# Altium schematic symbol library Capacitors.SchLib: 39 symbols
Pins are listed as number, name and electrical type; pins without a type are passive.

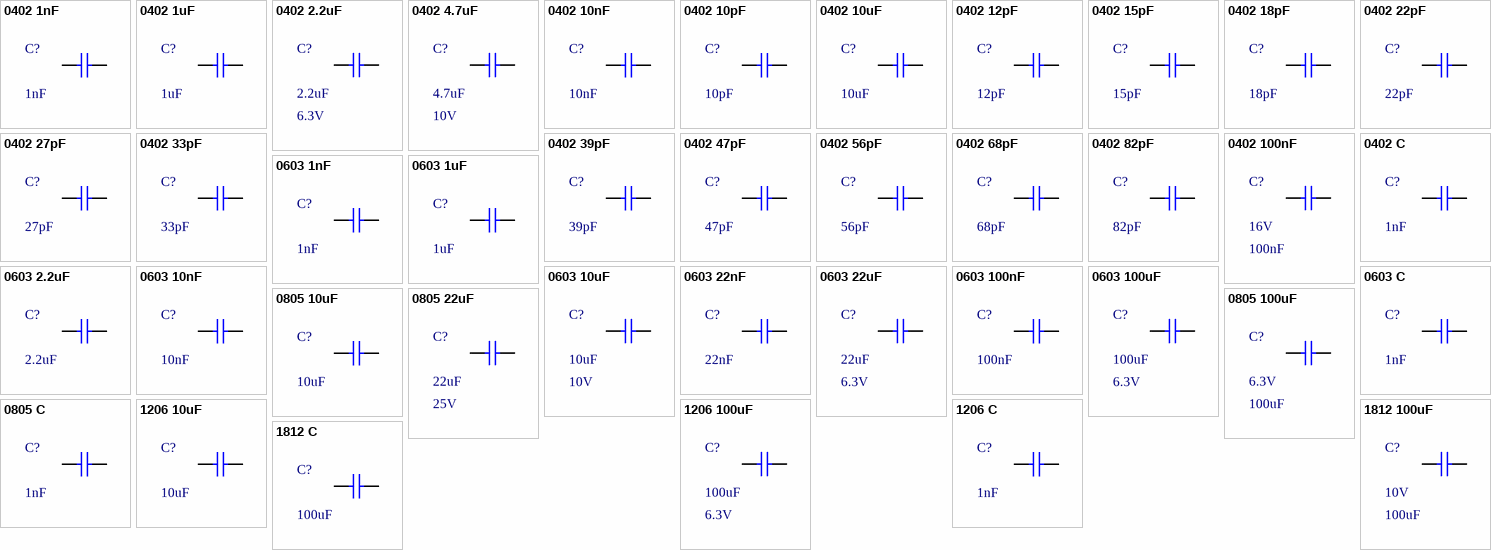
[diagram p0: symbols 0402 1nF to 1812 C]

## 0402 1nF
designator C?  value 1nF  (hidden comment: 0402 1nF)
Chip Capacitor; Voltage: 50V; Capacitor Type: Ceramic; Tolerance: 10%; Package: 0402; Pins: 2; RoHS Compliant: True
footprint 0402_C
pins: 1, 2

## 0402 1uF
designator C?  value 1uF  (hidden comment: 0402 1uF)
Chip Capacitor; Voltage: 25V; Capacitor Type: Ceramic; Tolerance: 10%; Package: 0402; Pins: 2; RoHS Compliant: True
footprint 0402_C
pins: 1, 2

## 0402 2.2uF
designator C?  value 2.2uF  Voltage: 6.3V  (hidden comment: 0402 2.2uF)
Chip Capacitor; Capacitor Type: Ceramic; Tolerance: 10%; Package: 0402; Pins: 2; RoHS Compliant: True
footprint 0402_C
pins: 1, 2

## 0402 4.7uF
designator C?  value 4.7uF  Voltage: 10V  (hidden comment: 0402 4.7uF)
Chip Capacitor; Capacitor Type: Ceramic; Tolerance: 10%; Package: 0402; Pins: 2; RoHS Compliant: True
footprint 0402_C
pins: 1, 2

## 0402 10nF
designator C?  value 10nF  (hidden comment: 0402 10nF)
Chip Capacitor; Voltage: 50V; Capacitor Type: Ceramic; Tolerance: 10%; Package: 0402; Pins: 2; RoHS Compliant: True
footprint 0402_C
pins: 1, 2

## 0402 10pF
designator C?  value 10pF  (hidden comment: 0402 10pF)
Chip Capacitor; Voltage: 50V; Capacitor Type: Ceramic; Tolerance: 10%; Package: 0402; Pins: 2; RoHS Compliant: True
footprint 0402_C
pins: 1, 2

## 0402 10uF
designator C?  value 10uF  (hidden comment: 0402 10uF)
Chip Capacitor; Voltage: 6.3V; Capacitor Type: Ceramic; Tolerance: 10%; Package: 0402; Pins: 2; RoHS Compliant: True
footprint 0402_C
pins: 1, 2

## 0402 12pF
designator C?  value 12pF  (hidden comment: 0402 12pF)
Chip Capacitor; Voltage: 50V; Capacitor Type: Ceramic; Tolerance: 10%; Package: 0402; Pins: 2; RoHS Compliant: True
footprint 0402_C
pins: 1, 2

## 0402 15pF
designator C?  value 15pF  (hidden comment: 0402 15pF)
Chip Capacitor; Voltage: 50V; Capacitor Type: Ceramic; Tolerance: 10%; Package: 0402; Pins: 2; RoHS Compliant: True
footprint 0402_C
pins: 1, 2

## 0402 18pF
designator C?  value 18pF  (hidden comment: 0402 18pF)
Chip Capacitor; Voltage: 50V; Capacitor Type: Ceramic; Tolerance: 10%; Package: 0402; Pins: 2; RoHS Compliant: True
footprint 0402_C
pins: 1, 2

## 0402 22pF
designator C?  value 22pF  (hidden comment: 0402 22pF)
Chip Capacitor; Voltage: 50V; Capacitor Type: Ceramic; Tolerance: 10%; Package: 0402; Pins: 2; RoHS Compliant: True
footprint 0402_C
pins: 1, 2

## 0402 27pF
designator C?  value 27pF  (hidden comment: 0402 27pF)
Chip Capacitor; Voltage: 50V; Capacitor Type: Ceramic; Tolerance: 10%; Package: 0402; Pins: 2; RoHS Compliant: True
footprint 0402_C
pins: 1, 2

## 0402 33pF
designator C?  value 33pF  (hidden comment: 0402 33pF)
Chip Capacitor; Voltage: 50V; Capacitor Type: Ceramic; Tolerance: 10%; Package: 0402; Pins: 2; RoHS Compliant: True
footprint 0402_C
pins: 1, 2

## 0402 39pF
designator C?  value 39pF  (hidden comment: 0402 39pF)
Chip Capacitor; Voltage: 50V; Capacitor Type: Ceramic; Tolerance: 10%; Package: 0402; Pins: 2; RoHS Compliant: True
footprint 0402_C
pins: 1, 2

## 0402 47pF
designator C?  value 47pF  (hidden comment: 0402 47pF)
Chip Capacitor; Voltage: 50V; Capacitor Type: Ceramic; Tolerance: 10%; Package: 0402; Pins: 2; RoHS Compliant: True
footprint 0402_C
pins: 1, 2

## 0402 56pF
designator C?  value 56pF  (hidden comment: 0402 56pF)
Chip Capacitor; Voltage: 50V; Capacitor Type: Ceramic; Tolerance: 10%; Package: 0402; Pins: 2; RoHS Compliant: True
footprint 0402_C
pins: 1, 2

## 0402 68pF
designator C?  value 68pF  (hidden comment: 0402 68pF)
Chip Capacitor; Voltage: 50V; Capacitor Type: Ceramic; Tolerance: 10%; Package: 0402; Pins: 2; RoHS Compliant: True
footprint 0402_C
pins: 1, 2

## 0402 82pF
designator C?  value 82pF  (hidden comment: 0402 82pF)
Chip Capacitor; Voltage: 50V; Capacitor Type: Ceramic; Tolerance: 10%; Package: 0402; Pins: 2; RoHS Compliant: True
footprint 0402_C
pins: 1, 2

## 0402 100nF
designator C?  value 100nF  Voltage: 16V  (hidden comment: 0402 100nF)
Chip Capacitor; Capacitor Type: Ceramic; Tolerance: 10%; Package: 0402; Pins: 2; RoHS Compliant: True
footprint 0402_C
pins: 1, 2

## 0402 C
designator C?, comment value 1nF  (hidden comment: 0402 1nF)
Chip Capacitor; Voltage: 50V; Capacitor Type: Ceramic; Tolerance: 10%; Package: 0402; Pins: 2; RoHS Compliant: True
footprint 0402_C
pins: 1, 2

## 0603 1nF
designator C?  value 1nF  (hidden comment: 0603 1nF)
Chip Capacitor; Voltage: 50V; Capacitor Type: Ceramic; Tolerance: 10%; Package: 0603; Pins: 2; RoHS Compliant: True
footprint 0603_C
pins: 1, 2

## 0603 1uF
designator C?  value 1uF  (hidden comment: 0603 1uF)
Chip Capacitor; Voltage: 50V; Capacitor Type: Ceramic; Tolerance: 10%; Package: 0603; Pins: 2; RoHS Compliant: True
footprint 0603_C
pins: 1, 2

## 0603 2.2uF
designator C?  value 2.2uF  (hidden comment: 0603 2.2uF)
Chip Capacitor; Voltage: 16V; Capacitor Type: Ceramic; Tolerance: 10%; Package: 0603; Pins: 2; RoHS Compliant: True
footprint 0603_C
pins: 1, 2

## 0603 10nF
designator C?  value 10nF  (hidden comment: 0603 10nF)
Chip Capacitor; Voltage: 50V; Capacitor Type: Ceramic; Tolerance: 10%; Package: 0603; Pins: 2; RoHS Compliant: True
footprint 0603_C
pins: 1, 2

## 0603 10uF
designator C?  value 10uF  Voltage: 10V  (hidden comment: 0603 10uF)
Chip Capacitor; Capacitor Type: Ceramic; Tolerance: 10%; Package: 0603; Pins: 2; RoHS Compliant: True
footprint 0603_C
pins: 1, 2

## 0603 22nF
designator C?  value 22nF  (hidden comment: 0603 22nF)
Chip Capacitor; Voltage: 50V; Capacitor Type: Ceramic; Tolerance: 10%; Package: 0603; Pins: 2; RoHS Compliant: True
footprint 0603_C
pins: 1, 2

## 0603 22uF
designator C?  value 22uF  Voltage: 6.3V  (hidden comment: 0603 22uF)
Chip Capacitor; Capacitor Type: Ceramic; Tolerance: 10%; Package: 0603; Pins: 2; RoHS Compliant: True
footprint 0603_C
pins: 1, 2

## 0603 100nF
designator C?  value 100nF  (hidden comment: 0603 100nF)
Chip Capacitor; Voltage: 50V; Capacitor Type: Ceramic; Tolerance: 10%; Package: 0603; Pins: 2; RoHS Compliant: True
footprint 0603_C
pins: 1, 2

## 0603 100uF
designator C?  value 100uF  Voltage: 6.3V  (hidden comment: 0603 100uF)
Chip Capacitor; Capacitor Type: Ceramic; Tolerance: 10%; Package: 0603; Pins: 2; RoHS Compliant: True
footprint 0603_C
pins: 1, 2

## 0603 C
designator C?, comment value 1nF  (hidden comment: 0603 1nF)
Chip Capacitor; Voltage: 50V; Capacitor Type: Ceramic; Tolerance: 10%; Package: 0603; Pins: 2; RoHS Compliant: True
footprint 0603_C
pins: 1, 2

## 0805 10uF
designator C?  value 10uF  (hidden comment: 0805 10uF)
Chip Capacitor; Voltage: 50V; Capacitor Type: Ceramic; Tolerance: 10%; Package: 0805; Pins: 2; RoHS Compliant: True
footprint 0805_C
pins: 1, 2

## 0805 22uF
designator C?  value 22uF  Voltage: 25V  (hidden comment: 0805 22uF)
Chip Capacitor; Capacitor Type: Ceramic; Tolerance: 10%; Package: 0805; Pins: 2; RoHS Compliant: True
footprint 0805_C
pins: 1, 2

## 0805 100uF
designator C?  value 100uF  Voltage: 6.3V  (hidden comment: 0805 100uF)
Chip Capacitor; Capacitor Type: Ceramic; Tolerance: 10%; Package: 0805; Pins: 2; RoHS Compliant: True
footprint 0805_C
pins: 1, 2

## 0805 C
designator C?, comment value 1nF  (hidden comment: 0805 1nF)
Chip Capacitor; Voltage: 50V; Capacitor Type: Ceramic; Tolerance: 10%; Package: 0805; Pins: 2; RoHS Compliant: True
footprint 0805_C
pins: 1, 2

## 1206 10uF
designator C?  value 10uF  (hidden comment: 1206 10uF)
Chip Capacitor; Voltage: 50V; Capacitor Type: Ceramic; Tolerance: 10%; Package: 1206; Pins: 2; RoHS Compliant: True
footprint 1206_C
pins: 1, 2

## 1206 100uF
designator C?  value 100uF  Voltage: 6.3V  (hidden comment: 1206 100uF)
Chip Capacitor; Capacitor Type: Ceramic; Tolerance: 10%; Package: 1206; Pins: 2; RoHS Compliant: True
footprint 1206_C
pins: 1, 2

## 1206 C
designator C?, comment value 1nF  (hidden comment: 1206 1nF)
Chip Capacitor; Voltage: 50V; Capacitor Type: Ceramic; Tolerance: 10%; Package: 1206; Pins: 2; RoHS Compliant: True
footprint 1206_C
pins: 1, 2

## 1812 100uF
designator C?  value 100uF  Voltage: 10V  (hidden comment: 1812 100uF)
Chip Capacitor; Capacitor Type: Ceramic; Tolerance: 10%; Package: 1812; Pins: 2; RoHS Compliant: True
footprint 1812_C
pins: 1, 2

## 1812 C
designator C?, comment value 100uF  (hidden comment: 1812 100uF)
Chip Capacitor; Voltage: 50V; Capacitor Type: Ceramic; Tolerance: 10%; Package: 1812; Pins: 2; RoHS Compliant: True
footprint 1812_C
pins: 1, 2